# Altium schematic symbol library Current Sense Amplifier.SchLib: 1 symbol
Pins are listed as number, name and electrical type; pins without a type are passive.

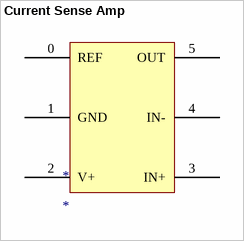
[diagram p0: symbol Current Sense Amp]

## Current Sense Amp
designator *
footprint Current Sense Amplifier
pins: 0 REF, 1 GND, 2 V+, 3 IN+, 4 IN-, 5 OUT